# EAGLE library part ER_OLED032-1 (library SKAARHOJ)
128x128 1.5" RGB OLED - UG-2828GDEDF11 30-Pin 0.5mm Pitch FPC Cable (Top+Bottom Contacts) - OMRON XF2M-3015-1A (Digikey: OR723TR-ND) This FPC connector has contacts on the top and bottom, but the appropriate pin needs to be selected depending on whether the OLED will be inserted right-side up (use the TOP pinout) or upside-down (use the BOTTOM pinout).
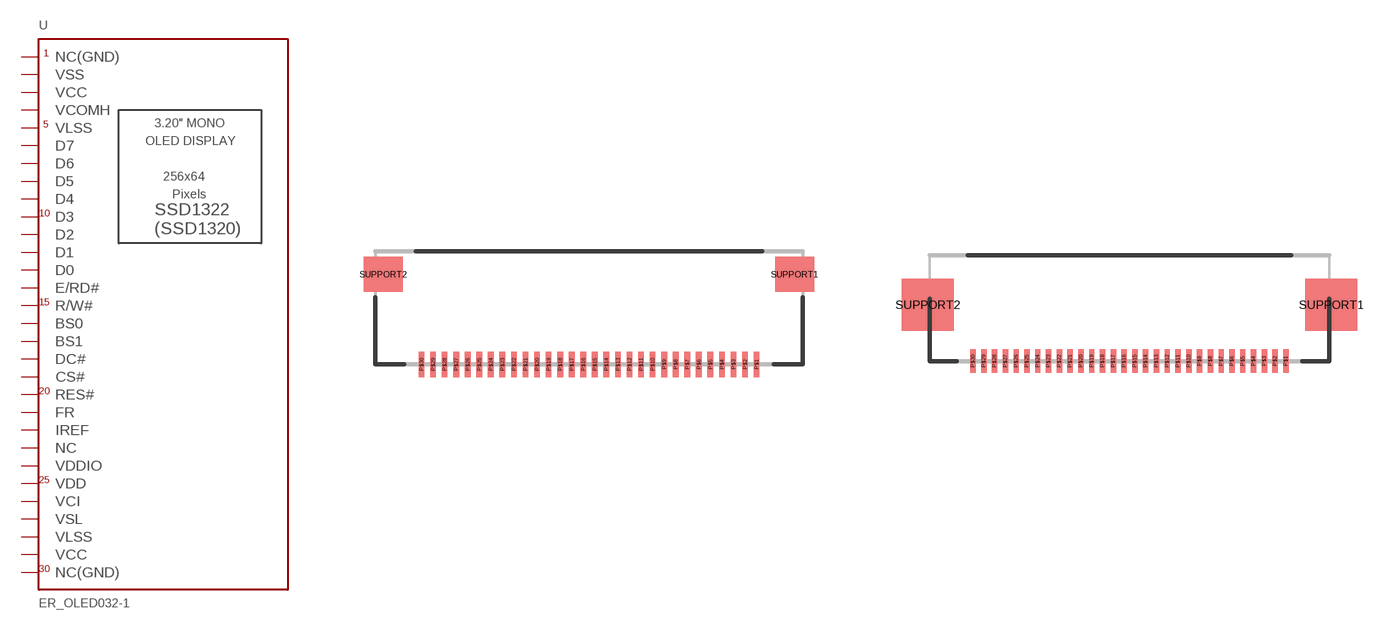
[diagram p19: symbol with the pads of FPC_XF2M-3015-1A; footprints FPC_XF2M-3015-1A, MOLEX_54104-3031]

Designator prefix U

## ER_OLED032-1TOP  [FPC_XF2M-3015-1A]
P$1  NC(GND)  nc
P$2  VCC  nc
P$3  VLSS  pwr
P$4  VSL  pwr
P$5  VCI  pwr
P$6  VDD  pwr
P$7  VDDIO  pwr
P$8  NC
P$9  IREF
P$10  FR
P$11  RES#
P$12  CS#
P$13  DC#
P$14  BS1
P$15  BS0
P$16  R/W#
P$17  E/RD#
P$18  D0
P$19  D1
P$20  D2
P$21  D3
P$22  D4
P$23  D5
P$24  D6
P$25  D7
P$26  VLSS  pwr
P$27  VCOMH  pwr
P$28  VCC  pwr
P$29  VSS  pwr
P$30  NC(GND)  nc

## ER_OLED032-1BOTTOM  [FPC_XF2M-3015-1A]
P$1  NC(GND)  nc
P$2  VSS  pwr
P$3  VCC  pwr
P$4  VCOMH  pwr
P$5  VLSS  pwr
P$6  D7
P$7  D6
P$8  D5
P$9  D4
P$10  D3
P$11  D2
P$12  D1
P$13  D0
P$14  E/RD#
P$15  R/W#
P$16  BS0
P$17  BS1
P$18  DC#
P$19  CS#
P$20  RES#
P$21  FR
P$22  IREF
P$23  NC
P$24  VDDIO  pwr
P$25  VDD  pwr
P$26  VCI  pwr
P$27  VSL  pwr
P$28  VLSS  pwr
P$29  VCC  nc
P$30  NC(GND)  nc

## ER_OLED032-1TOP_MOLED  [MOLEX_54104-3031]
Pads as for FPC_XF2M-3015-1A

## Footprint FPC_XF2M-3015-1A (pad centres in mm)
30-Pin 0.5mm FPC Top+Bottom - OMRON - XF2M-3015-1A
smd 0.25 x 1.1: P$1 7.25,-2.63; P$2 6.75,-2.63; P$3 6.25,-2.63; P$4 5.75,-2.63; P$5 5.25,-2.63; P$6 4.75,-2.63; P$7 4.25,-2.63; P$8 3.75,-2.63; P$9 3.25,-2.63; P$10 2.75,-2.63; P$11 2.25,-2.63; P$12 1.75,-2.63; P$13 1.25,-2.63; P$14 0.75,-2.63; P$15 0.25,-2.63; P$16 -0.25,-2.63; P$17 -0.75,-2.63; P$18 -1.25,-2.63; P$19 -1.75,-2.63; P$20 -2.25,-2.63; P$21 -2.75,-2.63; P$22 -3.25,-2.63; P$23 -3.75,-2.63; P$24 -4.25,-2.63; P$25 -4.75,-2.63; P$26 -5.25,-2.63; P$27 -5.75,-2.63; P$28 -6.25,-2.63; P$29 -6.75,-2.63; P$30 -7.25,-2.63
smd 1.7 x 1.5: SUPPORT1 8.9,1.27; SUPPORT2 -8.9,1.27

## Footprint MOLEX_54104-3031 (pad centres in mm)
smd 0.25 x 1.1: P$1 7.25,-2.63; P$2 6.75,-2.63; P$3 6.25,-2.63; P$4 5.75,-2.63; P$5 5.25,-2.63; P$6 4.75,-2.63; P$7 4.25,-2.63; P$8 3.75,-2.63; P$9 3.25,-2.63; P$10 2.75,-2.63; P$11 2.25,-2.63; P$12 1.75,-2.63; P$13 1.25,-2.63; P$14 0.75,-2.63; P$15 0.25,-2.63; P$16 -0.25,-2.63; P$17 -0.75,-2.63; P$18 -1.25,-2.63; P$19 -1.75,-2.63; P$20 -2.25,-2.63; P$21 -2.75,-2.63; P$22 -3.25,-2.63; P$23 -3.75,-2.63; P$24 -4.25,-2.63; P$25 -4.75,-2.63; P$26 -5.25,-2.63; P$27 -5.75,-2.63; P$28 -6.25,-2.63; P$29 -6.75,-2.63; P$30 -7.25,-2.63
smd 2.4 x 2.4: SUPPORT1 9.35,-0.02; SUPPORT2 -9.35,-0.02